# Altium footprint library SW_219-3LPSTR.PcbLib: 1 footprints
Each footprint in its own frame and in the unit in brackets; x right, y up, seen from the top. Pads: shape width x height; smd on the part's side, far side on the other; paste and mask are expansions set on the pad; w line width, h text height; cw(c..) or ccw(c..) is an arc to the next point about the centre after c.
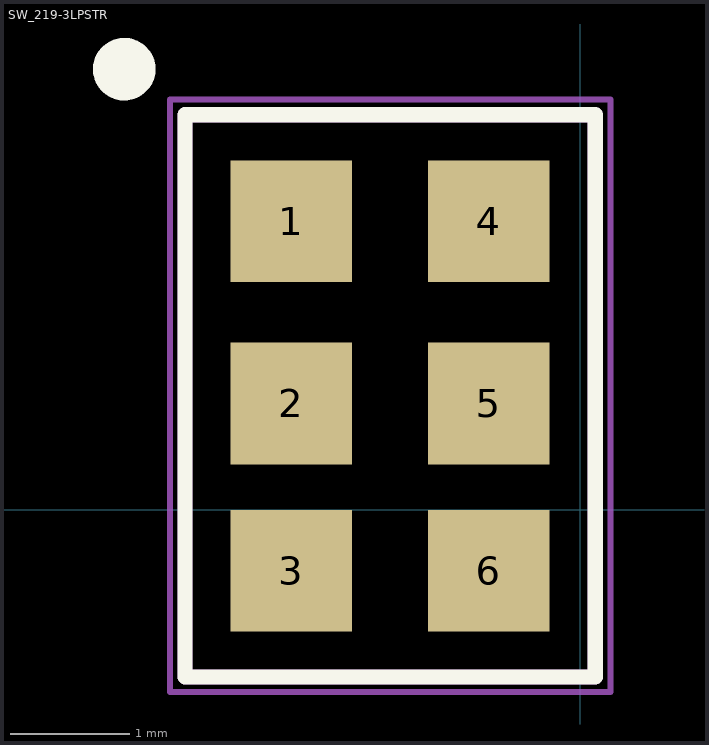
[diagram p0: the footprint, top view; thin cyan lines are the x and y axes]

## SW_219-3LPSTR [mil]
pads (6):
  rect 40x40 smd: 1(-95,95) 2(-95,35) 3(-95,-20) 4(-30,95) 5(-30,35) 6(-30,-20)
Top Overlay:
  circle w11.81: c-150,145 r4.4
  lines w5: -130,-55 5,-55 5,130 -130,130 -130,-55
Mechanical 13:
  lines w5: -130,-55 -130,130 5,130 5,-55 -130,-55
  lines w11.81: -150.02,144.63 ccw(c-154.4,145) -150,145
Mechanical 15:
  lines w1.97: -135,-60 10,-60
  lines w1.99: -135,-60 -135,135 10,135 10,-60